# Altium schematic symbol library LM27762DSSR.SchLib: 1 symbol
Pins are listed as number, name and electrical type; pins without a type are passive.

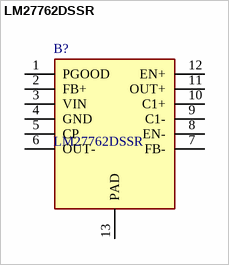
[diagram p0: symbol LM27762DSSR]

## LM27762DSSR
designator B?
LDO Voltage Regulators Low-Noise Positive- and Negative-Output Integrated Switched Capacitor Plus LDO 12-WSON -40 to 85; Manufacturer_Name: Texas Instruments; Geometry.Height: 0.8mm; Mouser Part Number: 595-LM27762DSSR; Mouser Price/Stock: https://www.mouser.co.uk/ProductDetail/Texas-Instruments/LM27762DSSR?qs=vcbl%252BK4rRlfEJcC9xQ80sA%3D%3D; Manufacturer_Part_Number: LM27762DSSR; Datasheet Link: https://www.ti.com/lit/ds/symlink/lm27762.pdf
footprint SON50P200X300X80-13N-D
pins: 1 PGOOD, 2 FB+ (power), 3 VIN (power), 4 GND, 5 CP (power), 6 OUT- (power), 7 FB- (power), 8 EN-, 9 C1- (power), 10 C1+ (power), 11 OUT+ (power), 12 EN+, 13 PAD